# Altium footprint library Mechanical_3D.PcbLib: 98 footprints (part 6 of 7)
Each footprint in its own frame and in the unit in brackets; x right, y up, seen from the top. Pads: shape width x height; smd on the part's side, far side on the other; paste and mask are expansions set on the pad; w line width, h text height; cw(c..) or ccw(c..) is an arc to the next point about the centre after c.
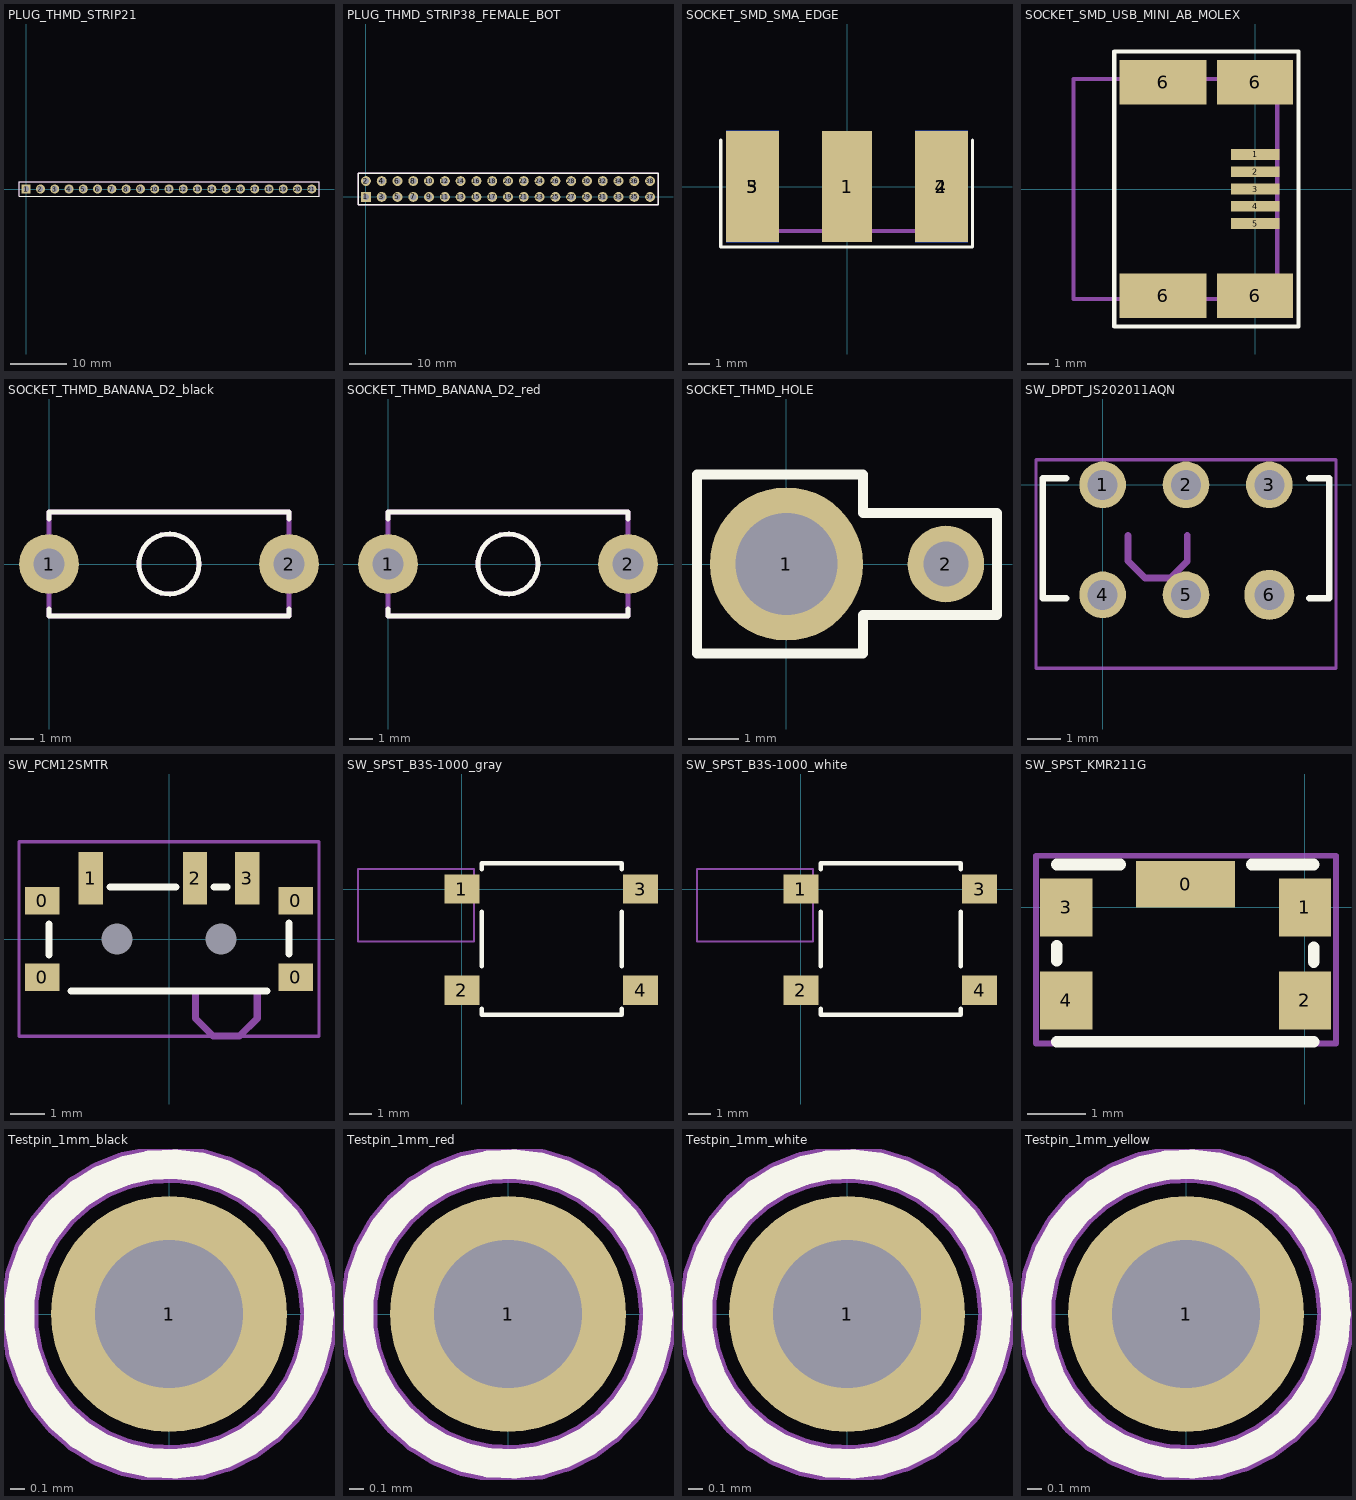
[diagram p5: the footprints below, top view; thin cyan lines are the x and y axes]

## PLUG_THMD_STRIP21 [mm]
pads (21):
  rect 1.6x1.6 / inner round 1.524 / far side rect 1.6x1.6 hole 1 paste+0 mask+0: 1(0,0)
  round 1.6 / inner round 1.524 / far side round 1.6 hole 1 paste+0 mask+0: 2(2.54,0) 3(5.08,0) 4(7.62,0) 5(10.16,0) 6(12.7,0) 7(15.24,0) 8(17.78,0) 9(20.32,0) 10(22.86,0) 11(25.4,0) 12(27.94,0) 13(30.48,0) 14(33.02,0) 15(35.56,0) 16(38.1,0) 17(40.64,0) 18(43.18,0) 19(45.72,0) 20(48.26,0) 21(50.8,0)
Top Overlay:
  lines w0.203: -1.27,-1.27 52.07,-1.27 52.07,1.27 -1.27,1.27 -1.27,-1.27
Mechanical 13:
  lines w0.203: -1.27,-1.27 52.07,-1.27 52.07,1.27 -1.27,1.27 -1.27,-1.27
  text "1" at -2.156,-0.448 h0.95
3D body "Stripline_1.stp": height 8.57, standoff -2.97, extent 49.53,-1.27 52.07,1.27
3D body "Stripline_1.stp": height 8.57, standoff -2.97, extent 41.91,-1.27 44.45,1.27
3D body "Stripline_1.stp": height 8.57, standoff -2.97, extent 34.29,-1.27 36.83,1.27
3D body "Stripline_1.stp": height 8.57, standoff -2.97, extent 31.75,-1.27 34.29,1.27
3D body "Stripline_1.stp": height 8.57, standoff -2.97, extent 26.67,-1.27 29.21,1.27
3D body "Stripline_1.stp": height 8.57, standoff -2.97, extent 24.13,-1.27 26.67,1.27
3D body "Stripline_1.stp": height 8.57, standoff -2.97, extent 21.59,-1.27 24.13,1.27
3D body "Stripline_1.stp": height 8.57, standoff -2.97, extent 16.51,-1.27 19.05,1.27
3D body "Stripline_1.stp": height 8.57, standoff -2.97, extent 11.43,-1.27 13.97,1.27
3D body "Stripline_1.stp": height 8.57, standoff -2.97, extent -1.27,-1.27 1.27,1.27
3D body "Stripline_1.stp": height 8.57, standoff -2.97, extent 1.27,-1.27 3.81,1.27
3D body "Stripline_1.stp": height 8.57, standoff -2.97, extent 3.81,-1.27 6.35,1.27
3D body "Stripline_1.stp": height 8.57, standoff -2.97, extent 6.35,-1.27 8.89,1.27
3D body "Stripline_1.stp": height 8.57, standoff -2.97, extent 8.89,-1.27 11.43,1.27
3D body "Stripline_1.stp": height 8.57, standoff -2.97, extent 13.97,-1.27 16.51,1.27
3D body "Stripline_1.stp": height 8.57, standoff -2.97, extent 19.05,-1.27 21.59,1.27
3D body "Stripline_1.stp": height 8.57, standoff -2.97, extent 29.21,-1.27 31.75,1.27
3D body "Stripline_1.stp": height 8.57, standoff -2.97, extent 36.83,-1.27 39.37,1.27
3D body "Stripline_1.stp": height 8.57, standoff -2.97, extent 39.37,-1.27 41.91,1.27
3D body "Stripline_1.stp": height 8.57, standoff -2.97, extent 44.45,-1.27 46.99,1.27
3D body "Stripline_1.stp": height 8.57, standoff -2.97, extent 46.99,-1.27 49.53,1.27

## PLUG_THMD_STRIP38_FEMALE_BOT [mm] "FEMALE BOTTOM MOUNT - silk Top"
pads (38):
  rect 1.6x1.6 / inner round 1.524 / far side rect 1.6x1.6 hole 1 paste+0 mask+0: 1(0,0)
  round 1.6 / inner round 1.524 / far side round 1.6 hole 1 paste+0 mask+0: 2(0,2.54) 3(2.54,0) 4(2.54,2.54) 5(5.08,0) 6(5.08,2.54) 7(7.62,0) 8(7.62,2.54) 9(10.16,0) 10(10.16,2.54) 11(12.7,0) 12(12.7,2.54) 13(15.24,0) 14(15.24,2.54) 15(17.78,0) 16(17.78,2.54) 17(20.32,0) 18(20.32,2.54) 19(22.86,0) 20(22.86,2.54) 21(25.4,0) 22(25.4,2.54) 23(27.94,0) 24(27.94,2.54) 25(30.48,0) 26(30.48,2.54) 27(33.02,0) 28(33.02,2.54) 29(35.56,0) 30(35.56,2.54) 31(38.1,0) 32(38.1,2.54) 33(40.64,0) 34(40.64,2.54) 35(43.18,0) 36(43.18,2.54) 37(45.72,0) 38(45.72,2.54)
Top Overlay:
  lines w0.203: -1.27,-1.27 -1.27,3.81 46.99,3.81 46.99,-1.27 -1.27,-1.27
Mechanical 13:
  lines w0.203: -1.27,-1.27 -1.27,3.81 46.99,3.81 46.99,-1.27 -1.27,-1.27
  text "1" at -2.156,-0.448 h0.95
3D body "BL5-1.STEP": height 7, standoff -3.1, extent 16.51,-1.27 19.05,1.27
3D body "BL5-1.STEP": height 7, standoff -3.1, extent 13.97,-1.27 16.51,1.27
3D body "BL5-1.STEP": height 7, standoff -3.1, extent 11.43,-1.27 13.97,1.27
3D body "BL5-1.STEP": height 7, standoff -3.1, extent 8.89,-1.27 11.43,1.27
3D body "BL5-1.STEP": height 7, standoff -3.1, extent 6.35,-1.27 8.89,1.27
3D body "BL5-1.STEP": height 7, standoff -3.1, extent 3.81,-1.27 6.35,1.27
3D body "BL5-1.STEP": height 7, standoff -3.1, extent 1.27,-1.27 3.81,1.27
3D body "BL5-1.STEP": height 7, standoff -3.1, extent -1.27,-1.27 1.27,1.27
3D body "BL5-1.STEP": height 7, standoff -3.1, extent 19.05,-1.27 21.59,1.27
3D body "BL5-1.STEP": height 7, standoff -3.1, extent 21.59,-1.27 24.13,1.27
3D body "BL5-1.STEP": height 7, standoff -3.1, extent 24.13,-1.27 26.67,1.27
3D body "BL5-1.STEP": height 7, standoff -3.1, extent 26.67,-1.27 29.21,1.27
3D body "BL5-1.STEP": height 7, standoff -3.1, extent 29.21,-1.27 31.75,1.27
3D body "BL5-1.STEP": height 7, standoff -3.1, extent 31.75,-1.27 34.29,1.27
3D body "BL5-1.STEP": height 7, standoff -3.1, extent 34.29,-1.27 36.83,1.27
3D body "BL5-1.STEP": height 7, standoff -3.1, extent 36.83,-1.27 39.37,1.27
3D body "BL5-1.STEP": height 7, standoff -3.1, extent 39.37,-1.27 41.91,1.27
3D body "BL5-1.STEP": height 7, standoff -3.1, extent 41.91,-1.27 44.45,1.27
3D body "BL5-1.STEP": height 7, standoff -3.1, extent 44.45,-1.27 46.99,1.27
3D body "BL5-1.STEP": height 7, standoff -3.1, extent 44.45,1.27 46.99,3.81
3D body "BL5-1.STEP": height 7, standoff -3.1, extent 41.91,1.27 44.45,3.81
3D body "BL5-1.STEP": height 7, standoff -3.1, extent 39.37,1.27 41.91,3.81
3D body "BL5-1.STEP": height 7, standoff -3.1, extent 36.83,1.27 39.37,3.81
3D body "BL5-1.STEP": height 7, standoff -3.1, extent 34.29,1.27 36.83,3.81
3D body "BL5-1.STEP": height 7, standoff -3.1, extent 31.75,1.27 34.29,3.81
3D body "BL5-1.STEP": height 7, standoff -3.1, extent 29.21,1.27 31.75,3.81
3D body "BL5-1.STEP": height 7, standoff -3.1, extent 26.67,1.27 29.21,3.81
3D body "BL5-1.STEP": height 7, standoff -3.1, extent 24.13,1.27 26.67,3.81
3D body "BL5-1.STEP": height 7, standoff -3.1, extent 21.59,1.27 24.13,3.81
3D body "BL5-1.STEP": height 7, standoff -3.1, extent 19.05,1.27 21.59,3.81
3D body "BL5-1.STEP": height 7, standoff -3.1, extent -1.27,1.27 1.27,3.81
3D body "BL5-1.STEP": height 7, standoff -3.1, extent 1.27,1.27 3.81,3.81
3D body "BL5-1.STEP": height 7, standoff -3.1, extent 3.81,1.27 6.35,3.81
3D body "BL5-1.STEP": height 7, standoff -3.1, extent 6.35,1.27 8.89,3.81
3D body "BL5-1.STEP": height 7, standoff -3.1, extent 8.89,1.27 11.43,3.81
3D body "BL5-1.STEP": height 7, standoff -3.1, extent 11.43,1.27 13.97,3.81
3D body "BL5-1.STEP": height 7, standoff -3.1, extent 13.97,1.27 16.51,3.81
3D body "BL5-1.STEP": height 7, standoff -3.1, extent 16.51,1.27 19.05,3.81

## SOCKET_SMD_SMA_EDGE [mil] "Johnson Component 142-0707-801"
pads (5):
  rect 90x200 smd paste+0 mask+0: 1(0,0)
  rect 95x200 smd paste+0 mask+0: 2(170,0) 3(-170,0)
  rect 95x200 smd far side paste+0 mask+0: 4(170,0) 5(-170,0)
Top Overlay:
  lines w6: -227,-109 226,-109 226,83.67 ; -227,-108 -227,83.67
  text ".Designator" at 0,0.32 h0.05
Mechanical 13:
  lines w7.87: -186,81.67 -186,-80 189,-80 189,83.67
  text ".Pattern" at 0,0 h0.05
  text ".Comment" at 0,0.22 h0.05
  text ".Designator" at 0,0.32 h0.05
3D body "Socket_SMA_SMD_Edge_142-0701-801.stp": height 169.91, standoff -141.91, extent -185.4,-80 189.41,481.81

## SOCKET_SMD_USB_MINI_AB_MOLEX [mm]
pads (9):
  rect 2.25x0.5 smd paste+0 mask+0: 1(0,1.6) 2(0,0.8) 3(0,0) 4(0,-0.8) 5(0,-1.6)
  rect 4x2.05 smd paste+0 mask+0: 6(-4.25,-4.925) 6(-4.25,4.925)
  rect 3.5x2.05 smd paste+0 mask+0: 6(0,-4.925) 6(0,4.925)
Top Overlay:
  lines w0.2: -6.5,-6.35 -6.5,6.35 2,6.35 2,-6.35 -6.5,-6.35
Mechanical 13:
  lines w0.2: -8.382,-5.08 1.016,-5.08 1.016,5.08 -8.382,5.08 -8.382,-5.08
3D body "651305142821.stp": height 4.05, standoff -0.05, extent -8.414,-4.95 0.986,4.95

## SOCKET_THMD_BANANA_D2_black [mil]
pads (2):
  round 100 / inner round 60 / far side round 100 hole 51 paste+0 mask+0: 1(0,0) 2(400,0)
Top Overlay:
  circle w8: c200,0 r50
  lines w8: 0,-75 0,-86.61 400,-86.61 400,-75 ; 0,75 0,86.61 400,86.61 400,75
Mechanical 13:
  circle w8: c200,0 r50
  lines w8: 0,-86.61 400,-86.61 400,86.61 0,86.61 0,-86.61
3D body "Banana_D2_mpb1_black.stp": height 228.74, standoff -137.4, extent -2.95,-79.77 400.6,77.71

## SOCKET_THMD_BANANA_D2_red [mil]
pads (2):
  round 100 / inner round 60 / far side round 100 hole 51 paste+0 mask+0: 1(0,0) 2(400,0)
Top Overlay:
  circle w8: c200,0 r50
  lines w8: 0,-75 0,-86.61 400,-86.61 400,-75 ; 0,75 0,86.61 400,86.61 400,75
Mechanical 13:
  circle w8: c200,0 r50
  lines w8: 0,-86.61 0,86.61 400,86.61 400,-86.61 0,-86.61
3D body "Banana_D2_mpb1_red.stp": height 228.74, standoff -137.4, extent -2.95,-79.77 400.6,77.71

## SOCKET_THMD_HOLE [mil]
height 31.5
pads (2):
  round 120 hole 80: 1(0,0)
  round 60 hole 35: 2(125,0)
Top Overlay:
  lines w8: -70,-70 -70,70 -65,70 60,70 60,40 165,40 165,-40 60,-40 60,-70 -70,-70
Top Solder:
  region: 125.2,35.47 125.36,35.36 125.47,35.2 125.51,35 125.51,-35 125.47,-35.2 125.36,-35.36 125.2,-35.47 125,-35.51 50,-35.51 49.8,-35.47 49.64,-35.36 49.53,-35.2 49.49,-35 49.49,35 49.53,35.2 49.64,35.36 49.8,35.47 50,35.51 125,35.51
Bottom Solder:
  region: 125.2,35.47 125.36,35.36 125.47,35.2 125.51,35 125.51,-35 125.47,-35.2 125.36,-35.36 125.2,-35.47 125,-35.51 50,-35.51 49.8,-35.47 49.64,-35.36 49.53,-35.2 49.49,-35 49.49,35 49.53,35.2 49.64,35.36 49.8,35.47 50,35.51 125,35.51

## SW_DPDT_JS202011AQN [mm]
pads (6):
  round 1.4 hole 0.9 paste+0 mask+0: 1(0,0) 2(2.5,0) 3(5,0) 4(0,-3.3) 5(2.5,-3.3)
  round 1.5 hole 0.9 paste+0 mask+0: 6(5,-3.3)
Top Overlay:
  lines w0.2: -1.1,-3.4 -1.8,-3.4 -1.8,0.199 -1.1,0.2 ; 6.2,-3.4 6.8,-3.4 6.8,0.2 6.2,0.2
Mechanical 1:
  lines w0.203: 0.762,-1.524 0.762,-2.286 1.27,-2.794 2.032,-2.794 2.54,-2.286 2.54,-1.524
Mechanical 15:
  lines w0.1: -2,-5.5 7,-5.5 7,0.75 -2,0.75 -2,-5.5
3D body "JS202011AQN.stp": height 3.5, standoff -3, extent -2,-5.4 7,0.2

## SW_PCM12SMTR [mm]
pads (9):
  rect 1x0.8 smd paste+0 mask+0: 0(-3.65,-1.1) 0(-3.65,1.1) 0(3.65,-1.1) 0(3.65,1.1)
  round 0 hole 0.9 unplated mask+0: 0(-1.5,0) 0(1.5,0)
  rect 0.7x1.5 smd paste+0 mask+0: 1(-2.25,1.75) 2(0.75,1.75) 3(2.25,1.75)
Top Overlay:
  lines w0.2: -3.454,-0.457 -3.454,0.432 ; -2.819,-1.499 2.819,-1.499 ; -1.702,1.499 0.203,1.499 ; 1.295,1.499 1.676,1.499 ; 3.454,-0.432 3.454,0.457
Mechanical 1:
  lines w0.203: 0.762,-1.524 0.762,-2.286 1.27,-2.794 2.032,-2.794 2.54,-2.286 2.54,-1.524
Mechanical 15:
  lines w0.1: -4.318,-2.794 4.318,-2.794 4.318,2.794 -4.318,2.794 -4.318,-2.794
3D body "Switch_slide_pcm12smtr.stp": height 1.4, standoff -0.5, extent -3.85,-2.8 3.85,2.2

## SW_SPST_B3S-1000_gray [mm] "Tactile Switch (Sealed SMD Type)"
pads (4):
  rect 1.55x1.3 smd paste+0 mask+0: 1(0,0) 2(0,-4.5) 3(7.95,0) 4(7.95,-4.5)
Top Overlay:
  lines w0.2: 0.889,-5.334 0.889,-5.588 7.112,-5.588 7.112,-5.334 ; 0.889,-3.429 0.889,-1.016 ; 0.889,0.889 0.889,1.143 7.112,1.143 7.112,0.889 ; 7.112,-3.429 7.112,-1.016
Mechanical 15:
  lines w0.1: -4.623,-2.337 0.533,-2.337 0.533,0.889 -4.623,0.889 -4.623,-2.337
3D body "Switch_tactile_SPST_B3S-1000-gray.stp": height 4.3, standoff 0, extent -0.512,-5.56 8.488,1.04

## SW_SPST_B3S-1000_white [mm] "Tactile Switch (Sealed SMD Type)"
pads (4):
  rect 1.55x1.3 smd paste+0 mask+0: 1(0,0) 2(0,-4.5) 3(7.95,0) 4(7.95,-4.5)
Top Overlay:
  lines w0.2: 0.889,-5.334 0.889,-5.588 7.112,-5.588 7.112,-5.334 ; 0.889,-3.429 0.889,-1.016 ; 0.889,0.889 0.889,1.143 7.112,1.143 7.112,0.889 ; 7.112,-3.429 7.112,-1.016
Mechanical 15:
  lines w0.1: -4.623,-2.337 -4.623,0.889 0.533,0.889 0.533,-2.337 -4.623,-2.337
3D body "Switch_tactile_SPST_B3S-1000.stp": height 4.3, standoff 0, extent -0.512,-5.56 8.488,1.04

## SW_SPST_KMR211G [mm] "Micromineature Tactile Switch for SMT"
pads (5):
  rect 1.7x0.8 smd paste+0 mask+0: 0(-2.05,0.4)
  rect 0.9x1 smd paste+0 mask+0: 1(0,0) 2(0,-1.6) 3(-4.1,0) 4(-4.1,-1.6)
Top Overlay:
  lines w0.2: -4.267,-2.311 0.152,-2.311 ; -4.267,-0.914 -4.267,-0.66 ; -4.267,0.737 -3.175,0.737 ; -0.914,0.737 0.152,0.737 ; 0.152,-0.94 0.152,-0.686
Mechanical 15:
  lines w0.1: -4.623,-2.337 0.533,-2.337 0.533,0.889 -4.623,0.889 -4.623,-2.337
3D body "Switch_tactile_kmr211g.stp": height 1.9, standoff 0, extent -4.357,-2.187 0.243,0.613

## Testpin_1mm_black [mm]
pads (1):
  round 1.6 / inner round 1.524 / far side round 1.6 hole 1 paste+0 mask+0: 1(0,0)
Top Overlay:
  circle w0.2: c0,0 r1.016
Mechanical 13:
  circle w0.254: c0,0 r1.016
  text "1" at -1.778,-0.254 h0.95
3D body "Terminal_1mm_black.stp": height 4.69, standoff -2.39, extent -1,-1.016 1,0.984

## Testpin_1mm_red [mm]
pads (1):
  round 1.6 / inner round 1.524 / far side round 1.6 hole 1 paste+0 mask+0: 1(0,0)
Top Overlay:
  circle w0.2: c0,0 r1.016
Mechanical 13:
  circle w0.254: c0,0 r1.016
  text "1" at -1.778,-0.254 h0.95
3D body "Terminal_1mm_red.stp": height 4.69, standoff -2.39, extent -1,-1.016 1,0.984

## Testpin_1mm_white [mm]
pads (1):
  round 1.6 / inner round 1.524 / far side round 1.6 hole 1 paste+0 mask+0: 1(0,0)
Top Overlay:
  circle w0.2: c0,0 r1.016
Mechanical 13:
  circle w0.254: c0,0 r1.016
  text "1" at -1.778,-0.254 h0.95
3D body "Terminal_1mm_white.stp": height 4.69, standoff -2.39, extent -1,-1.016 1,0.984

## Testpin_1mm_yellow [mm]
pads (1):
  round 1.6 / inner round 1.524 / far side round 1.6 hole 1 paste+0 mask+0: 1(0,0)
Top Overlay:
  circle w0.2: c0,0 r1.016
Mechanical 13:
  circle w0.254: c0,0 r1.016
  text "1" at -1.778,-0.254 h0.95
3D body "Terminal_1mm_yellow.stp": height 4.69, standoff -2.39, extent -1,-1.016 1,0.984